# EAGLE library part DEGREE_CONTROLS_F66X (library air_flow)
Degree Controls AirFlow Sensors PCB mount file:///C:/Users/hydronics/Downloads/Board%20Mount%20Sensor%20Platform%20Manual.pdf
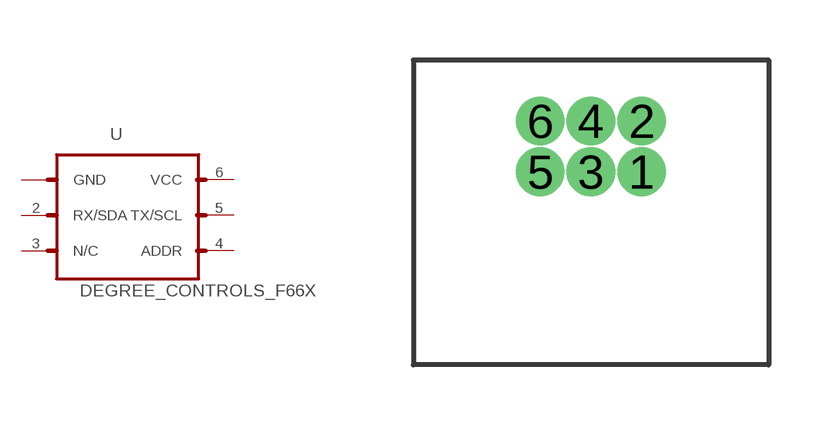
[diagram p0: symbol with the pads of F660/F662; footprint F660/F662]

Designator prefix -

## DEGREE_CONTROLS_F66X  [F660/F662]
1  GND  pas
2  RX/SDA  pas
3  N/C  pas
4  ADDR  pas
5  TX/SCL  pas
6  VCC  pas

## Footprint F660/F662 (pad centres in mm)
drill 0.711 pad 1.067: 1 0,0; 2 0,1.27; 3 -1.27,0; 4 -1.27,1.27; 5 -2.54,0; 6 -2.54,1.27